# Altium integrated library TI Amplifiers and Linear Special Function Amplifier.IntLib: 708 symbols (part 32 of 47)
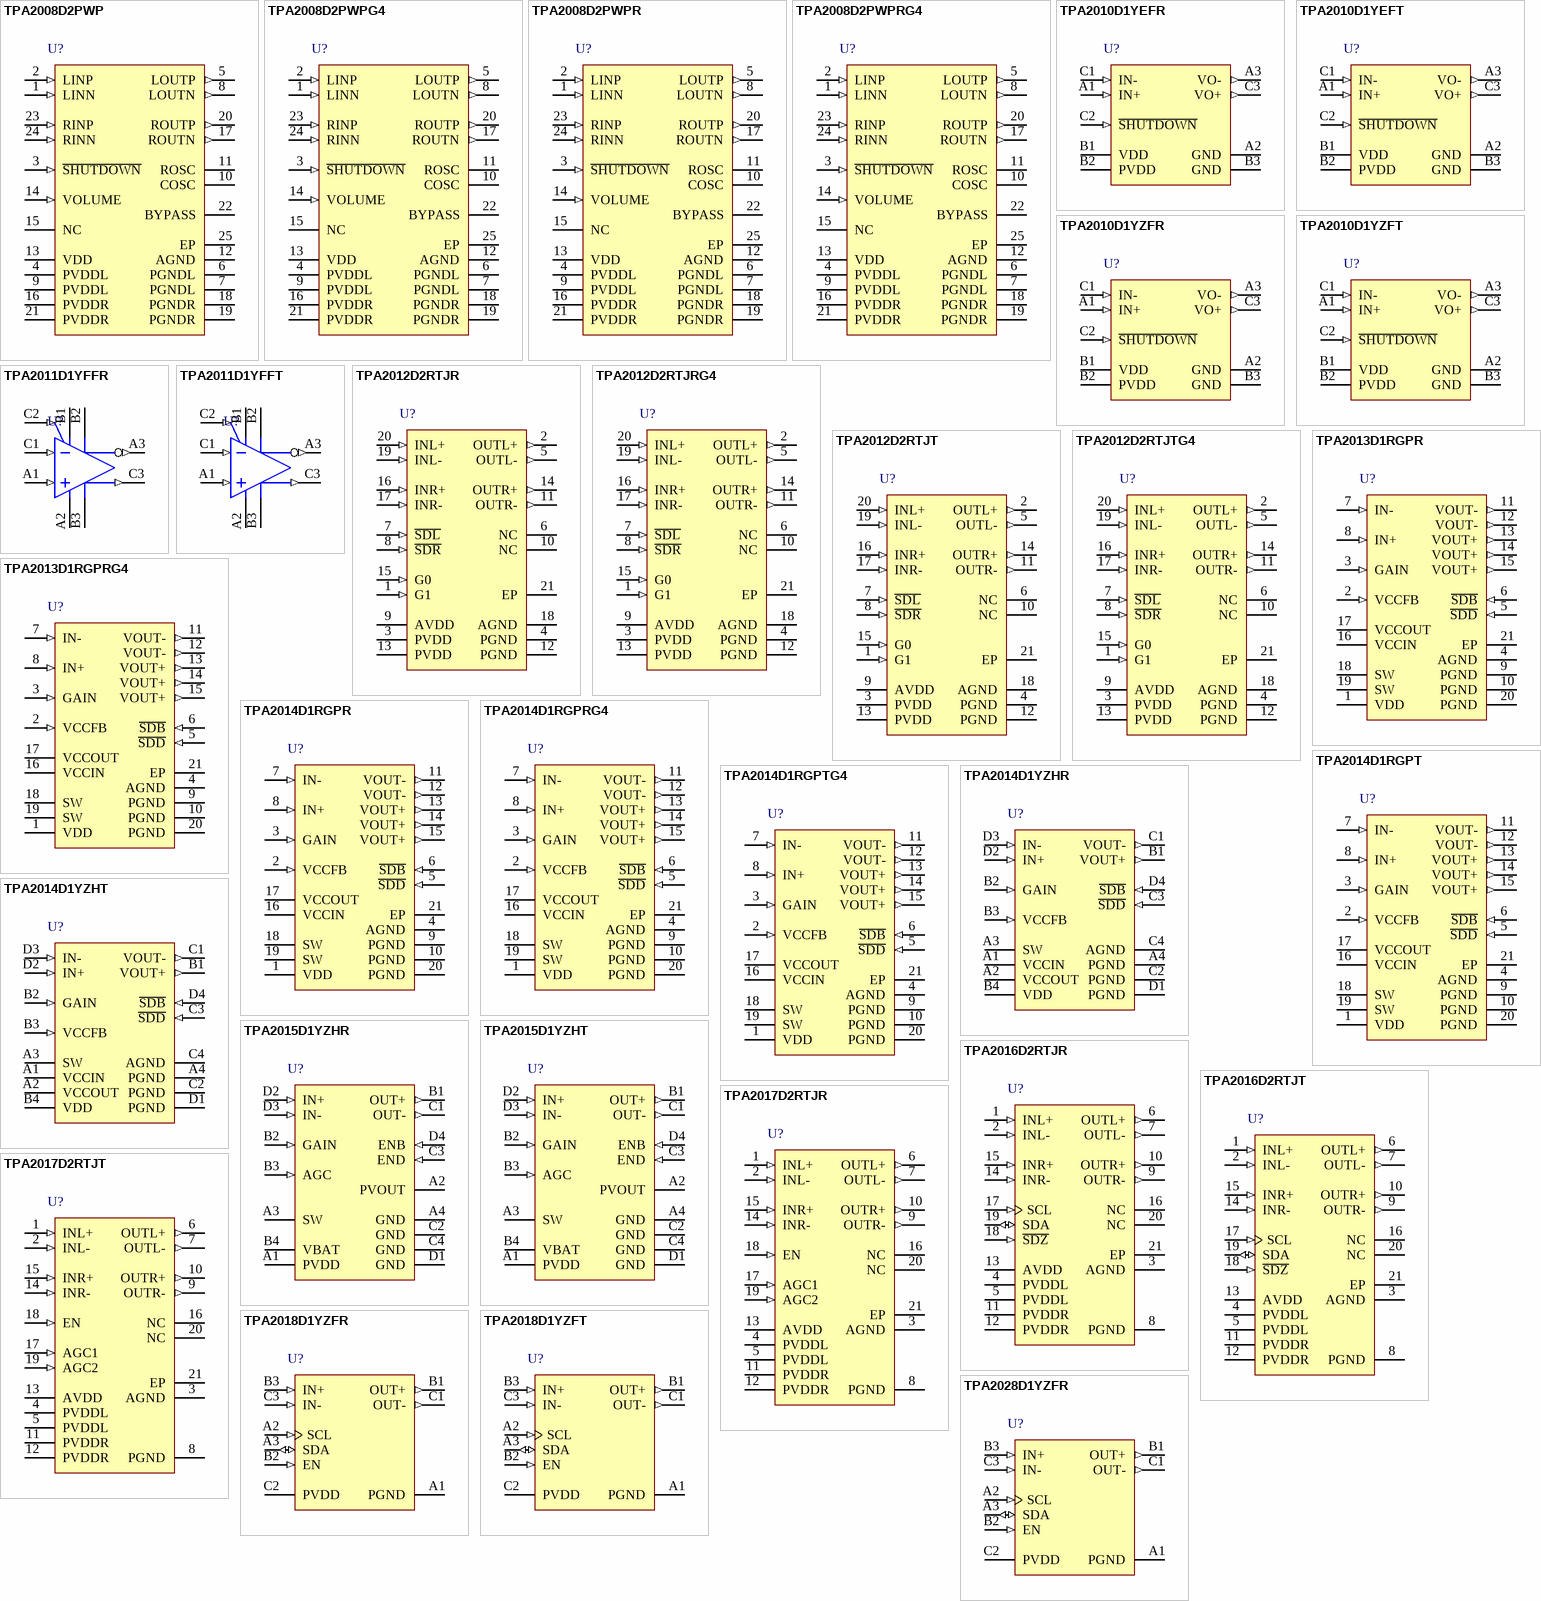
[diagram p70: symbols TPA2008D2PWP to TPA2028D1YZFR]

## TPA2008D2PWPG4
designator U?
3-W Stereo Class-D Audio Amplifier with Volume Control, -40 to 85 degC, 24-pin SOP (PWP24), Green (RoHS & no Sb/Br); Manufacturer: Texas Instruments; PartNumber: TPA2008D2PWPG4; DC Volume Control: TRUE; Output Power(W): 3; PSRR(dB): -70; Special Features: DC Volume Control; SubFamily: Dynamic Speaker; Supply Max(Max)(Volt): 5.5; Supply Min(Min)(Volt): 4.5; DatasheetVersion: SLOS413C; PackageVersion: 4073225-5/I, 05/2011; PackageReference: PWP24-4820X1950TP; PackageDescription: 24-Pin Plastic Small Outline, Body 4.4 x 7.8 mm, Pitch 0.65 mm; Supplier 1: Digi-Key; Supplier Part Number 1: TPA2008D2PWPG4-ND; Supplier 2: Mouser; Supplier Part Number 2: 595-TPA2008D2PWPG4; Eco-Plan: Green (RoHS & no Sb/Br); Speaker Amp Type: Class-D; Speaker Channels: Stereo; Mounting Technology: Surface Mount; Code_JEDEC: MO-153; ComponentLink1Description: Manufacturer URL; ComponentLink1URL: http://www.ti.com/; ComponentLink2Description: Datasheet; ComponentLink2URL: http://www.ti.com/general/docs/lit/getliterature.tsp?genericPartNumber=TPA2008D2&fileType=pdf; ComponentLink3Description: Package Specification; ComponentLink3URL: http://www.ti.com/litv/pdf/mpds372
footprint TI-PWP24-4820X1950TP_N (SOP, 24-Leads, Body 7.8x4.4mm, Pitch 0.65mm, Thermal Pad 4.87x2.4mm, IPC Medium Density)
footprint TI-PWP24-4820X1950TP_L (SOP, 24-Leads, Body 7.8x4.4mm, Pitch 0.65mm, Thermal Pad 4.87x2.4mm, IPC High Density)
footprint TI-PWP24-4820X1950TP_M (SOP, 24-Leads, Body 7.8x4.4mm, Pitch 0.65mm, Thermal Pad 4.87x2.4mm, IPC Low Density)
pins: 1 LINN (in) "Negative differential audio input for left channel", 2 LINP (in) "Positive differential audio input for left channel", 3 ~{SHUTDOWN} (in) "Places the amplifer in shutdown mode if a TTL logic low is placed on this terminal; normal operation if a TTL logic high is placed on this terminal.", 4 PVDDL (power) "Power supply for left channel H-bridge", 5 LOUTP (out) "Positive audio output for left channel", 6 PGNDL (power) "Power ground for left channel H-bridge", 7 PGNDL (power) "Power ground for left channel H-bridge", 8 LOUTN (out) "Negative audio output for left channel", 9 PVDDL (power) "Power supply for left channel H-bridge", 10 COSC "A capacitor connected to this terminal sets the oscillation frequency in conjunction with ROSC. For proper operation, connect a 220-pF capacitor from COSC to ground.", 11 ROSC "A resistor connected to the ROSC terminal sets the oscillation frequency in conjunction with COSC. For proper operation, connect a 120-kohm resistor from ROSC to ground.", 12 AGND (power) "Analog ground", 13 VDD (power) "Analog power supply", 14 VOLUME (in) "DC volume control for setting the gain on the internal amplifiers. The dc voltage range is 0 to VDD.", 15 NC "No connection", 16 PVDDR (power) "Power supply for right channel H-bridge", 17 ROUTN (out) "Negative output for right channel", 18 PGNDR (power) "Power ground for right channel H-bridge", 19 PGNDR (power) "Power ground for right channel H-bridge", 20 ROUTP (out) "Positive output for right channel", 21 PVDDR (power) "Power supply for right channel H-bridge", 22 BYPASS "Tap to voltage divider for internal mid-supply bias generator used for internal analog reference.", 23 RINP (in) "Negative differential audio input for right channel", 24 RINN (in) "Positive differential audio input for right channel", 25 EP (power) "Connect to analog ground and the power grounds must be soldered down in all applications to properly secure device on the PCB."

## TPA2008D2PWPR
designator U?
3-W Stereo Class-D Audio Amplifier with Volume Control, -40 to 85 degC, 24-pin SOP (PWP24), Green (RoHS & no Sb/Br); Manufacturer: Texas Instruments; PartNumber: TPA2008D2PWPR; DC Volume Control: TRUE; Output Power(W): 3; PSRR(dB): -70; Special Features: DC Volume Control; SubFamily: Dynamic Speaker; Supply Max(Max)(Volt): 5.5; Supply Min(Min)(Volt): 4.5; DatasheetVersion: SLOS413C; PackageVersion: 4073225-5/I, 05/2011; PackageReference: PWP24-4820X1950TP; PackageDescription: 24-Pin Plastic Small Outline, Body 4.4 x 7.8 mm, Pitch 0.65 mm; Supplier 1: Digi-Key; Supplier Part Number 1: 296-17158-2-ND; Supplier 2: Digi-Key; Supplier Part Number 2: 296-17158-1-ND; Supplier 3: Digi-Key; Supplier Part Number 3: 296-17158-6-ND; Supplier 4: Newark; Supplier Part Number 4: 82H5863; Supplier 5: Mouser; Supplier Part Number 5: 595-TPA2008D2PWPR; Eco-Plan: Green (RoHS & no Sb/Br); Speaker Amp Type: Class-D; Speaker Channels: Stereo; Mounting Technology: Surface Mount; Code_JEDEC: MO-153; ComponentLink1Description: Manufacturer URL; ComponentLink1URL: http://www.ti.com/; ComponentLink2Description: Datasheet; ComponentLink2URL: http://www.ti.com/general/docs/lit/getliterature.tsp?genericPartNumber=TPA2008D2&fileType=pdf; ComponentLink3Description: Package Specification; ComponentLink3URL: http://www.ti.com/litv/pdf/mpds372
footprint TI-PWP24-4820X1950TP_N (SOP, 24-Leads, Body 7.8x4.4mm, Pitch 0.65mm, Thermal Pad 4.87x2.4mm, IPC Medium Density)
footprint TI-PWP24-4820X1950TP_L (SOP, 24-Leads, Body 7.8x4.4mm, Pitch 0.65mm, Thermal Pad 4.87x2.4mm, IPC High Density)
footprint TI-PWP24-4820X1950TP_M (SOP, 24-Leads, Body 7.8x4.4mm, Pitch 0.65mm, Thermal Pad 4.87x2.4mm, IPC Low Density)
pins: 1 LINN (in) "Negative differential audio input for left channel", 2 LINP (in) "Positive differential audio input for left channel", 3 ~{SHUTDOWN} (in) "Places the amplifer in shutdown mode if a TTL logic low is placed on this terminal; normal operation if a TTL logic high is placed on this terminal.", 4 PVDDL (power) "Power supply for left channel H-bridge", 5 LOUTP (out) "Positive audio output for left channel", 6 PGNDL (power) "Power ground for left channel H-bridge", 7 PGNDL (power) "Power ground for left channel H-bridge", 8 LOUTN (out) "Negative audio output for left channel", 9 PVDDL (power) "Power supply for left channel H-bridge", 10 COSC "A capacitor connected to this terminal sets the oscillation frequency in conjunction with ROSC. For proper operation, connect a 220-pF capacitor from COSC to ground.", 11 ROSC "A resistor connected to the ROSC terminal sets the oscillation frequency in conjunction with COSC. For proper operation, connect a 120-kohm resistor from ROSC to ground.", 12 AGND (power) "Analog ground", 13 VDD (power) "Analog power supply", 14 VOLUME (in) "DC volume control for setting the gain on the internal amplifiers. The dc voltage range is 0 to VDD.", 15 NC "No connection", 16 PVDDR (power) "Power supply for right channel H-bridge", 17 ROUTN (out) "Negative output for right channel", 18 PGNDR (power) "Power ground for right channel H-bridge", 19 PGNDR (power) "Power ground for right channel H-bridge", 20 ROUTP (out) "Positive output for right channel", 21 PVDDR (power) "Power supply for right channel H-bridge", 22 BYPASS "Tap to voltage divider for internal mid-supply bias generator used for internal analog reference.", 23 RINP (in) "Negative differential audio input for right channel", 24 RINN (in) "Positive differential audio input for right channel", 25 EP (power) "Connect to analog ground and the power grounds must be soldered down in all applications to properly secure device on the PCB."

## TPA2008D2PWPRG4
designator U?
3-W Stereo Class-D Audio Amplifier with Volume Control, -40 to 85 degC, 24-pin SOP (PWP24), Green (RoHS & no Sb/Br); Manufacturer: Texas Instruments; PartNumber: TPA2008D2PWPRG4; DC Volume Control: TRUE; Output Power(W): 3; PSRR(dB): -70; Special Features: DC Volume Control; SubFamily: Dynamic Speaker; Supply Max(Max)(Volt): 5.5; Supply Min(Min)(Volt): 4.5; DatasheetVersion: SLOS413C; PackageVersion: 4073225-5/I, 05/2011; PackageReference: PWP24-4820X1950TP; PackageDescription: 24-Pin Plastic Small Outline, Body 4.4 x 7.8 mm, Pitch 0.65 mm; Supplier 1: Digi-Key; Supplier Part Number 1: TPA2008D2PWPRG4-ND; Supplier 2: Mouser; Supplier Part Number 2: 595-TPA2008D2PWPRG4; Eco-Plan: Green (RoHS & no Sb/Br); Speaker Amp Type: Class-D; Speaker Channels: Stereo; Mounting Technology: Surface Mount; Code_JEDEC: MO-153; ComponentLink1Description: Manufacturer URL; ComponentLink1URL: http://www.ti.com/; ComponentLink2Description: Datasheet; ComponentLink2URL: http://www.ti.com/general/docs/lit/getliterature.tsp?genericPartNumber=TPA2008D2&fileType=pdf; ComponentLink3Description: Package Specification; ComponentLink3URL: http://www.ti.com/litv/pdf/mpds372
footprint TI-PWP24-4820X1950TP_N (SOP, 24-Leads, Body 7.8x4.4mm, Pitch 0.65mm, Thermal Pad 4.87x2.4mm, IPC Medium Density)
footprint TI-PWP24-4820X1950TP_L (SOP, 24-Leads, Body 7.8x4.4mm, Pitch 0.65mm, Thermal Pad 4.87x2.4mm, IPC High Density)
footprint TI-PWP24-4820X1950TP_M (SOP, 24-Leads, Body 7.8x4.4mm, Pitch 0.65mm, Thermal Pad 4.87x2.4mm, IPC Low Density)
pins: 1 LINN (in) "Negative differential audio input for left channel", 2 LINP (in) "Positive differential audio input for left channel", 3 ~{SHUTDOWN} (in) "Places the amplifer in shutdown mode if a TTL logic low is placed on this terminal; normal operation if a TTL logic high is placed on this terminal.", 4 PVDDL (power) "Power supply for left channel H-bridge", 5 LOUTP (out) "Positive audio output for left channel", 6 PGNDL (power) "Power ground for left channel H-bridge", 7 PGNDL (power) "Power ground for left channel H-bridge", 8 LOUTN (out) "Negative audio output for left channel", 9 PVDDL (power) "Power supply for left channel H-bridge", 10 COSC "A capacitor connected to this terminal sets the oscillation frequency in conjunction with ROSC. For proper operation, connect a 220-pF capacitor from COSC to ground.", 11 ROSC "A resistor connected to the ROSC terminal sets the oscillation frequency in conjunction with COSC. For proper operation, connect a 120-kohm resistor from ROSC to ground.", 12 AGND (power) "Analog ground", 13 VDD (power) "Analog power supply", 14 VOLUME (in) "DC volume control for setting the gain on the internal amplifiers. The dc voltage range is 0 to VDD.", 15 NC "No connection", 16 PVDDR (power) "Power supply for right channel H-bridge", 17 ROUTN (out) "Negative output for right channel", 18 PGNDR (power) "Power ground for right channel H-bridge", 19 PGNDR (power) "Power ground for right channel H-bridge", 20 ROUTP (out) "Positive output for right channel", 21 PVDDR (power) "Power supply for right channel H-bridge", 22 BYPASS "Tap to voltage divider for internal mid-supply bias generator used for internal analog reference.", 23 RINP (in) "Negative differential audio input for right channel", 24 RINN (in) "Positive differential audio input for right channel", 25 EP (power) "Connect to analog ground and the power grounds must be soldered down in all applications to properly secure device on the PCB."

## TPA2010D1YEFR
designator U?
2.5-W Mono Class-D Audio Amplifier with Variable Gain, -40 to 85 degC, 9-pin BGA (YEF9); Manufacturer: Texas Instruments; PartNumber: TPA2010D1YEFR; Output Power(W): 2.5; PSRR(dB): 75; SubFamily: Dynamic Speaker; Supply Max(Max)(Volt): 5.5; DatasheetVersion: SLOS417C; PackageVersion: 4204181/F, 07/2008; PackageReference: YEF9; PackageDescription: 9-Ball Silicon Grid Array, Body 1.452 x 1.45 mm, Pitch 0.5 mm; Supplier 1: Digi-Key; Supplier Part Number 1: TPA2010D1YEFR-ND; Supplier 2: Mouser; Supplier Part Number 2: 595-TPA2010D1YEFR; Speaker Amp Type: Class-D; Speaker Channels: Mono; Supply Min(Min)(Volt): 2.5; Mounting Technology: Surface Mount; ComponentLink1Description: Manufacturer URL; ComponentLink1URL: http://www.ti.com/; ComponentLink2Description: Datasheet; ComponentLink2URL: http://www.ti.com/general/docs/lit/getliterature.tsp?genericPartNumber=TPA2010D1&fileType=pdf; ComponentLink3Description: Package Specification; ComponentLink3URL: NO URL
footprint TI-YEF9 (BGA, 9-Balls, Body 1.452x1.45mm, Pitch 0.5mm)
pins: A1 IN+ (in) "Positive differential input", A2 GND (power) "High-current ground", A3 VO- (out) "Negative BTL output", B1 VDD (power) "Power supply", B2 PVDD (power) "Power supply", B3 GND (power) "High-current ground", C1 IN- (in) "Negative differential input", C2 ~{SHUTDOWN} (in) "Shutdown terminal (active low logic)", C3 VO+ (out) "Positive BTL output"

## TPA2010D1YEFT
designator U?
2.5-W Mono Class-D Audio Amplifier with Variable Gain, -40 to 85 degC, 9-pin BGA (YEF9); Manufacturer: Texas Instruments; PartNumber: TPA2010D1YEFT; Output Power(W): 2.5; PSRR(dB): 75; SubFamily: Dynamic Speaker; Supply Max(Max)(Volt): 5.5; DatasheetVersion: SLOS417C; PackageVersion: 4204181/F, 07/2008; PackageReference: YEF9; PackageDescription: 9-Ball Silicon Grid Array, Body 1.452 x 1.45 mm, Pitch 0.5 mm; Supplier 1: Digi-Key; Supplier Part Number 1: TPA2010D1YEFT-ND; Supplier 2: Mouser; Supplier Part Number 2: 595-TPA2010D1YEFT; Speaker Amp Type: Class-D; Speaker Channels: Mono; Supply Min(Min)(Volt): 2.5; Mounting Technology: Surface Mount; ComponentLink1Description: Manufacturer URL; ComponentLink1URL: http://www.ti.com/; ComponentLink2Description: Datasheet; ComponentLink2URL: http://www.ti.com/general/docs/lit/getliterature.tsp?genericPartNumber=TPA2010D1&fileType=pdf; ComponentLink3Description: Package Specification; ComponentLink3URL: NO URL
footprint TI-YEF9 (BGA, 9-Balls, Body 1.452x1.45mm, Pitch 0.5mm)
pins: A1 IN+ (in) "Positive differential input", A2 GND (power) "High-current ground", A3 VO- (out) "Negative BTL output", B1 VDD (power) "Power supply", B2 PVDD (power) "Power supply", B3 GND (power) "High-current ground", C1 IN- (in) "Negative differential input", C2 ~{SHUTDOWN} (in) "Shutdown terminal (active low logic)", C3 VO+ (out) "Positive BTL output"

## TPA2010D1YZFR
designator U?
2.5-W Mono Class-D Audio Amplifier with Variable Gain, -40 to 85 degC, 9-pin BGA (YZF9), Green (RoHS & no Sb/Br); Manufacturer: Texas Instruments; PartNumber: TPA2010D1YZFR; Output Power(W): 2.5; PSRR(dB): 75; SubFamily: Dynamic Speaker; Supply Max(Max)(Volt): 5.5; DatasheetVersion: SLOS417C; PackageVersion: 4205058-4/P, 07/2013; PackageReference: YZF9; PackageDescription: 9-Ball Silicon Grid Array, Body 1.625 x 1.625 mm, Pitch 0.5 mm; Supplier 1: Digi-Key; Supplier Part Number 1: 296-16648-2-ND; Supplier 2: Digi-Key; Supplier Part Number 2: 296-16648-1-ND; Supplier 3: Digi-Key; Supplier Part Number 3: 296-16648-6-ND; Supplier 4: Newark; Supplier Part Number 4: 90H4704; Supplier 5: Mouser; Supplier Part Number 5: 595-TPA2010D1YZFR; Eco-Plan: Green (RoHS & no Sb/Br); Speaker Amp Type: Class-D; Speaker Channels: Mono; Supply Min(Min)(Volt): 2.5; Mounting Technology: Surface Mount; ComponentLink1Description: Manufacturer URL; ComponentLink1URL: http://www.ti.com/; ComponentLink2Description: Datasheet; ComponentLink2URL: http://www.ti.com/general/docs/lit/getliterature.tsp?genericPartNumber=TPA2010D1&fileType=pdf; ComponentLink3Description: Package Specification; ComponentLink3URL: http://www.ti.com/lit/ml/mxbg027m/mxbg027m.pdf
footprint TI-YZF9 (BGA, 9-Leads, Body 1.6245x1.6245mm, Pitch 0.5mm)
pins: A1 IN+ (in) "Positive differential input", A2 GND (power) "High-current ground", A3 VO- (out) "Negative BTL output", B1 VDD (power) "Power supply", B2 PVDD (power) "Power supply", B3 GND (power) "High-current ground", C1 IN- (in) "Negative differential input", C2 ~{SHUTDOWN} (in) "Shutdown terminal (active low logic)", C3 VO+ (out) "Positive BTL output"

## TPA2010D1YZFT
designator U?
2.5-W Mono Class-D Audio Amplifier with Variable Gain, -40 to 85 degC, 9-pin BGA (YZF9), Green (RoHS & no Sb/Br); Manufacturer: Texas Instruments; PartNumber: TPA2010D1YZFT; Output Power(W): 2.5; PSRR(dB): 75; SubFamily: Dynamic Speaker; Supply Max(Max)(Volt): 5.5; DatasheetVersion: SLOS417C; PackageVersion: 4205058-4/P, 07/2013; PackageReference: YZF9; PackageDescription: 9-Ball Silicon Grid Array, Body 1.625 x 1.625 mm, Pitch 0.5 mm; Supplier 1: Digi-Key; Supplier Part Number 1: 296-16659-2-ND; Supplier 2: Digi-Key; Supplier Part Number 2: 296-16659-1-ND; Supplier 3: Digi-Key; Supplier Part Number 3: 296-16659-6-ND; Supplier 4: Farnell; Supplier Part Number 4: 8456437RL; Supplier 5: Farnell; Supplier Part Number 5: 8456437; Supplier 6: Newark; Supplier Part Number 6: 38K8593; Supplier 7: Newark; Supplier Part Number 7: 90H4705; Supplier 8: Mouser; Supplier Part Number 8: 595-TPA2010D1YZFT; Eco-Plan: Green (RoHS & no Sb/Br); Speaker Amp Type: Class-D; Speaker Channels: Mono; Supply Min(Min)(Volt): 2.5; Mounting Technology: Surface Mount; ComponentLink1Description: Manufacturer URL; ComponentLink1URL: http://www.ti.com/; ComponentLink2Description: Datasheet; ComponentLink2URL: http://www.ti.com/general/docs/lit/getliterature.tsp?genericPartNumber=TPA2010D1&fileType=pdf; ComponentLink3Description: Package Specification; ComponentLink3URL: http://www.ti.com/lit/ml/mxbg027m/mxbg027m.pdf
footprint TI-YZF9 (BGA, 9-Leads, Body 1.6245x1.6245mm, Pitch 0.5mm)
pins: A1 IN+ (in) "Positive differential input", A2 GND (power) "High-current ground", A3 VO- (out) "Negative BTL output", B1 VDD (power) "Power supply", B2 PVDD (power) "Power supply", B3 GND (power) "High-current ground", C1 IN- (in) "Negative differential input", C2 ~{SHUTDOWN} (in) "Shutdown terminal (active low logic)", C3 VO+ (out) "Positive BTL output"

## TPA2011D1YFFR
designator U?
3.2 W Mono Class-D With Auto-Recovering Short-Circuit Protection, -40 to 85 degC, 9-pin BGA (YFF9), Green (RoHS & no Sb/Br); Manufacturer: Texas Instruments; PartNumber: TPA2011D1YFFR; Output Power(W): 3.24; PSRR(dB): 86; SubFamily: Dynamic Speaker; Supply Max(Max)(Volt): 5.5; Supply Min(Min)(Volt): 2.5; DatasheetVersion: SLOS626A; PackageVersion: 4207625-6/AL, 05/2013; PackageReference: YFF9; PackageDescription: 9-Ball Silicon Grid Array, Body 1.214 x 1.16 mm, Pitch 0.4 mm; Supplier 1: Digi-Key; Supplier Part Number 1: 296-25556-2-ND; Supplier 2: Digi-Key; Supplier Part Number 2: 296-25556-1-ND; Supplier 3: Digi-Key; Supplier Part Number 3: 296-25556-6-ND; Supplier 4: Mouser; Supplier Part Number 4: 595-TPA2011D1YFFR; Eco-Plan: Green (RoHS & no Sb/Br); Speaker Amp Type: Class-D; Speaker Channels: Mono; Mounting Technology: Surface Mount; ComponentLink1Description: Manufacturer URL; ComponentLink1URL: http://www.ti.com/; ComponentLink2Description: Datasheet; ComponentLink2URL: http://www.ti.com/general/docs/lit/getliterature.tsp?genericPartNumber=TPA2011D1&fileType=pdf; ComponentLink3Description: Package Specification; ComponentLink3URL: http://www.ti.com/litv/pdf/mxbg144
footprint TI-YFF9-1214X1160DE (BGA, 9-Balls, Body 1.214x1.16mm, Pitch 0.4mm)
pins: A1 IN+ (in) "Positive differential audio input", A2 GND (power) "Analog ground terminal. Must be connected to same potential as PGND using a direct connection to a single point ground.", A3 VO- (out) "Negative BTL audio output", B1 VDD (power) "Power supply terminal. Must be connected to same power supply as PVDD using a direct connection. Voltage must be within values listed in Recommended Operating Conditions table.", B2 PVDD (power) "High-current Power supply terminal. Must be connected to same power supply as VDD using a direct connection. Voltage must be within values listed in Recommended Operating Conditions table.", B3 PGND (power) "High-current Analog ground terminal. Must be connected to same potential as GND using a direct connection to a single point ground.", C1 IN- (in) "Negative differential audio input", C2 EN (in) "Shutdown terminal. When terminal is low the device is put into Shutdown mode.", C3 VO+ (out) "Positive BTL audio output"

## TPA2011D1YFFT
designator U?
3.2 W Mono Class-D With Auto-Recovering Short-Circuit Protection, -40 to 85 degC, 9-pin BGA (YFF9), Green (RoHS & no Sb/Br); Manufacturer: Texas Instruments; PartNumber: TPA2011D1YFFT; Output Power(W): 3.24; PSRR(dB): 86; SubFamily: Dynamic Speaker; Supply Max(Max)(Volt): 5.5; Supply Min(Min)(Volt): 2.5; DatasheetVersion: SLOS626A; PackageVersion: 4207625-6/AL, 05/2013; PackageReference: YFF9; PackageDescription: 9-Ball Silicon Grid Array, Body 1.214 x 1.16 mm, Pitch 0.4 mm; Supplier 1: Digi-Key; Supplier Part Number 1: 296-32450-2-ND; Supplier 2: Digi-Key; Supplier Part Number 2: 296-32450-1-ND; Supplier 3: Digi-Key; Supplier Part Number 3: 296-32450-6-ND; Supplier 4: Farnell; Supplier Part Number 4: 2211325; Supplier 5: Newark; Supplier Part Number 5: 64R0726; Supplier 6: Newark; Supplier Part Number 6: 44W4444; Supplier 7: Mouser; Supplier Part Number 7: 595-TPA2011D1YFFT; Eco-Plan: Green (RoHS & no Sb/Br); Speaker Amp Type: Class-D; Speaker Channels: Mono; Mounting Technology: Surface Mount; ComponentLink1Description: Manufacturer URL; ComponentLink1URL: http://www.ti.com/; ComponentLink2Description: Datasheet; ComponentLink2URL: http://www.ti.com/general/docs/lit/getliterature.tsp?genericPartNumber=TPA2011D1&fileType=pdf; ComponentLink3Description: Package Specification; ComponentLink3URL: http://www.ti.com/litv/pdf/mxbg144
footprint TI-YFF9-1214X1160DE (BGA, 9-Balls, Body 1.214x1.16mm, Pitch 0.4mm)
pins: A1 IN+ (in) "Positive differential audio input", A2 GND (power) "Analog ground terminal. Must be connected to same potential as PGND using a direct connection to a single point ground.", A3 VO- (out) "Negative BTL audio output", B1 VDD (power) "Power supply terminal. Must be connected to same power supply as PVDD using a direct connection. Voltage must be within values listed in Recommended Operating Conditions table.", B2 PVDD (power) "High-current Power supply terminal. Must be connected to same power supply as VDD using a direct connection. Voltage must be within values listed in Recommended Operating Conditions table.", B3 PGND (power) "High-current Analog ground terminal. Must be connected to same potential as GND using a direct connection to a single point ground.", C1 IN- (in) "Negative differential audio input", C2 EN (in) "Shutdown terminal. When terminal is low the device is put into Shutdown mode.", C3 VO+ (out) "Positive BTL audio output"

## TPA2012D2RTJR
designator U?
2.1-W Stereo Class-D Audio Amplifier with Gain Select, -40 to 85 degC, 20-pin QFN (RTJ20), Green (RoHS & no Sb/Br); Manufacturer: Texas Instruments; PartNumber: TPA2012D2RTJR; Output Power(W): 2.1; PSRR(dB): -75; SubFamily: Dynamic Speaker; Supply Max(Max)(Volt): 5.5; Supply Min(Min)(Volt): 2.5; DatasheetVersion: SLOS438D; PackageVersion: 4205505/F, 07/2011; PackageReference: RTJ20-2700X2700TP; PackageDescription: 20-pin Plastic Flat Pack, Body 4 x 4 mm, Pitch 0.5 mm; Supplier 1: Digi-Key; Supplier Part Number 1: 296-17692-2-ND; Supplier 2: Digi-Key; Supplier Part Number 2: 296-17692-1-ND; Supplier 3: Digi-Key; Supplier Part Number 3: 296-17692-6-ND; Supplier 4: Newark; Supplier Part Number 4: 73J8372; Supplier 5: Mouser; Supplier Part Number 5: 595-TPA2012D2RTJR; Eco-Plan: Green (RoHS & no Sb/Br); Speaker Amp Type: Class-D; Speaker Channels: Stereo; Mounting Technology: Surface Mount; ComponentLink1Description: Manufacturer URL; ComponentLink1URL: http://www.ti.com/; ComponentLink2Description: Datasheet; ComponentLink2URL: http://www.ti.com/general/docs/lit/getliterature.tsp?genericPartNumber=TPA2012D2&fileType=pdf; ComponentLink3Description: Package Specification; ComponentLink3URL: http://www.ti.com/litv/pdf/mpqf156e
footprint TI-RTJ20-2700X2700TP_V (QFN, 20-Leads, Body 4x4mm, Pitch 0.5mm, Thermal Pad 2.7x2.7mm)
pins: 1 G1 (in) "Gain select (MSB)", 2 OUTL+ (out) "Left channel positive differential output", 3 PVDD (power) "Power supply (Must be same voltage as AVDD)", 4 PGND (power) "Power ground", 5 OUTL- (out) "Left channel negative differential output", 6 NC "No internal connection", 7 ~{SDL} (in) "Left channel shutdown terminal (active low)", 8 ~{SDR} (in) "Right channel shutdown terminal (active low)", 9 AVDD (power) "Analog supply (Must be same voltage as PVDD)", 10 NC "No internal connection", 11 OUTR- (out) "Right channel negative differential output", 12 PGND (power) "Power ground", 13 PVDD (power) "Power supply (Must be same voltage as AVDD)", 14 OUTR+ (out) "Right channel positive differential output", 15 G0 (in) "Gain select (LSB)", 16 INR+ (in) "Right channel positive input", 17 INR- (in) "Right channel negative input", 18 AGND (power) "Analog ground", 19 INL- (in) "Left channel negative input", 20 INL+ (in) "Left channel positive input", 21 EP (power) "Connect the thermal pad of QFN or PWP package to PCB GND"

## TPA2012D2RTJRG4
designator U?
2.1-W Stereo Class-D Audio Amplifier with Gain Select, -40 to 85 degC, 20-pin QFN (RTJ20), Green (RoHS & no Sb/Br); Manufacturer: Texas Instruments; PartNumber: TPA2012D2RTJRG4; Output Power(W): 2.1; PSRR(dB): -75; SubFamily: Dynamic Speaker; Supply Max(Max)(Volt): 5.5; Supply Min(Min)(Volt): 2.5; DatasheetVersion: SLOS438D; PackageVersion: 4205505/F, 07/2011; PackageReference: RTJ20-2700X2700TP; PackageDescription: 20-pin Plastic Flat Pack, Body 4 x 4 mm, Pitch 0.5 mm; Supplier 1: Digi-Key; Supplier Part Number 1: TPA2012D2RTJRG4-ND; Supplier 2: Newark; Supplier Part Number 2: 24K5779; Supplier 3: Mouser; Supplier Part Number 3: 595-TPA2012D2RTJRG4; Eco-Plan: Green (RoHS & no Sb/Br); Speaker Amp Type: Class-D; Speaker Channels: Stereo; Mounting Technology: Surface Mount; ComponentLink1Description: Manufacturer URL; ComponentLink1URL: http://www.ti.com/; ComponentLink2Description: Datasheet; ComponentLink2URL: http://www.ti.com/general/docs/lit/getliterature.tsp?genericPartNumber=TPA2012D2&fileType=pdf; ComponentLink3Description: Package Specification; ComponentLink3URL: http://www.ti.com/litv/pdf/mpqf156e
footprint TI-RTJ20-2700X2700TP_V (QFN, 20-Leads, Body 4x4mm, Pitch 0.5mm, Thermal Pad 2.7x2.7mm)
pins: 1 G1 (in) "Gain select (MSB)", 2 OUTL+ (out) "Left channel positive differential output", 3 PVDD (power) "Power supply (Must be same voltage as AVDD)", 4 PGND (power) "Power ground", 5 OUTL- (out) "Left channel negative differential output", 6 NC "No internal connection", 7 ~{SDL} (in) "Left channel shutdown terminal (active low)", 8 ~{SDR} (in) "Right channel shutdown terminal (active low)", 9 AVDD (power) "Analog supply (Must be same voltage as PVDD)", 10 NC "No internal connection", 11 OUTR- (out) "Right channel negative differential output", 12 PGND (power) "Power ground", 13 PVDD (power) "Power supply (Must be same voltage as AVDD)", 14 OUTR+ (out) "Right channel positive differential output", 15 G0 (in) "Gain select (LSB)", 16 INR+ (in) "Right channel positive input", 17 INR- (in) "Right channel negative input", 18 AGND (power) "Analog ground", 19 INL- (in) "Left channel negative input", 20 INL+ (in) "Left channel positive input", 21 EP (power) "Connect the thermal pad of QFN or PWP package to PCB GND"

## TPA2012D2RTJT
designator U?
2.1-W Stereo Class-D Audio Amplifier with Gain Select, -40 to 85 degC, 20-pin QFN (RTJ20), Green (RoHS & no Sb/Br); Manufacturer: Texas Instruments; PartNumber: TPA2012D2RTJT; Output Power(W): 2.1; PSRR(dB): -75; SubFamily: Dynamic Speaker; Supply Max(Max)(Volt): 5.5; Supply Min(Min)(Volt): 2.5; DatasheetVersion: SLOS438D; PackageVersion: 4205505/F, 07/2011; PackageReference: RTJ20-2700X2700TP; PackageDescription: 20-pin Plastic Flat Pack, Body 4 x 4 mm, Pitch 0.5 mm; Supplier 1: Digi-Key; Supplier Part Number 1: 296-26878-2-ND; Supplier 2: Digi-Key; Supplier Part Number 2: 296-26878-1-ND; Supplier 3: Digi-Key; Supplier Part Number 3: 296-26878-6-ND; Supplier 4: Newark; Supplier Part Number 4: 73J8373; Supplier 5: Mouser; Supplier Part Number 5: 595-TPA2012D2RTJT; Eco-Plan: Green (RoHS & no Sb/Br); Speaker Amp Type: Class-D; Speaker Channels: Stereo; Mounting Technology: Surface Mount; ComponentLink1Description: Manufacturer URL; ComponentLink1URL: http://www.ti.com/; ComponentLink2Description: Datasheet; ComponentLink2URL: http://www.ti.com/general/docs/lit/getliterature.tsp?genericPartNumber=TPA2012D2&fileType=pdf; ComponentLink3Description: Package Specification; ComponentLink3URL: http://www.ti.com/litv/pdf/mpqf156e
footprint TI-RTJ20-2700X2700TP_V (QFN, 20-Leads, Body 4x4mm, Pitch 0.5mm, Thermal Pad 2.7x2.7mm)
pins: 1 G1 (in) "Gain select (MSB)", 2 OUTL+ (out) "Left channel positive differential output", 3 PVDD (power) "Power supply (Must be same voltage as AVDD)", 4 PGND (power) "Power ground", 5 OUTL- (out) "Left channel negative differential output", 6 NC "No internal connection", 7 ~{SDL} (in) "Left channel shutdown terminal (active low)", 8 ~{SDR} (in) "Right channel shutdown terminal (active low)", 9 AVDD (power) "Analog supply (Must be same voltage as PVDD)", 10 NC "No internal connection", 11 OUTR- (out) "Right channel negative differential output", 12 PGND (power) "Power ground", 13 PVDD (power) "Power supply (Must be same voltage as AVDD)", 14 OUTR+ (out) "Right channel positive differential output", 15 G0 (in) "Gain select (LSB)", 16 INR+ (in) "Right channel positive input", 17 INR- (in) "Right channel negative input", 18 AGND (power) "Analog ground", 19 INL- (in) "Left channel negative input", 20 INL+ (in) "Left channel positive input", 21 EP (power) "Connect the thermal pad of QFN or PWP package to PCB GND"

## TPA2012D2RTJTG4
designator U?
2.1-W Stereo Class-D Audio Amplifier with Gain Select, -40 to 85 degC, 20-pin QFN (RTJ20), Green (RoHS & no Sb/Br); Manufacturer: Texas Instruments; PartNumber: TPA2012D2RTJTG4; Output Power(W): 2.1; PSRR(dB): -75; SubFamily: Dynamic Speaker; Supply Max(Max)(Volt): 5.5; Supply Min(Min)(Volt): 2.5; DatasheetVersion: SLOS438D; PackageVersion: 4205505/F, 07/2011; PackageReference: RTJ20-2700X2700TP; PackageDescription: 20-pin Plastic Flat Pack, Body 4 x 4 mm, Pitch 0.5 mm; Supplier 1: Digi-Key; Supplier Part Number 1: TPA2012D2RTJTG4-ND; Supplier 2: Farnell; Supplier Part Number 2: 1390712; Supplier 3: Newark; Supplier Part Number 3: 62M0664; Supplier 4: Mouser; Supplier Part Number 4: 595-TPA2012D2RTJTG4; Eco-Plan: Green (RoHS & no Sb/Br); Speaker Amp Type: Class-D; Speaker Channels: Stereo; Mounting Technology: Surface Mount; ComponentLink1Description: Manufacturer URL; ComponentLink1URL: http://www.ti.com/; ComponentLink2Description: Datasheet; ComponentLink2URL: http://www.ti.com/general/docs/lit/getliterature.tsp?genericPartNumber=TPA2012D2&fileType=pdf; ComponentLink3Description: Package Specification; ComponentLink3URL: http://www.ti.com/litv/pdf/mpqf156e
footprint TI-RTJ20-2700X2700TP_V (QFN, 20-Leads, Body 4x4mm, Pitch 0.5mm, Thermal Pad 2.7x2.7mm)
pins: 1 G1 (in) "Gain select (MSB)", 2 OUTL+ (out) "Left channel positive differential output", 3 PVDD (power) "Power supply (Must be same voltage as AVDD)", 4 PGND (power) "Power ground", 5 OUTL- (out) "Left channel negative differential output", 6 NC "No internal connection", 7 ~{SDL} (in) "Left channel shutdown terminal (active low)", 8 ~{SDR} (in) "Right channel shutdown terminal (active low)", 9 AVDD (power) "Analog supply (Must be same voltage as PVDD)", 10 NC "No internal connection", 11 OUTR- (out) "Right channel negative differential output", 12 PGND (power) "Power ground", 13 PVDD (power) "Power supply (Must be same voltage as AVDD)", 14 OUTR+ (out) "Right channel positive differential output", 15 G0 (in) "Gain select (LSB)", 16 INR+ (in) "Right channel positive input", 17 INR- (in) "Right channel negative input", 18 AGND (power) "Analog ground", 19 INL- (in) "Left channel negative input", 20 INL+ (in) "Left channel positive input", 21 EP (power) "Connect the thermal pad of QFN or PWP package to PCB GND"

## TPA2013D1RGPR
designator U?
2.7-W Constant Output Power Mono Class-D Audio Amplifier with Integrated Boost Converter, -40 to 85 degC, 20-pin QFN (RGP20), Green (RoHS & no Sb/Br); Manufacturer: Texas Instruments; PartNumber: TPA2013D1RGPR; Output Power(W): 2.7; PSRR(dB): -95; Speaker Amp Type: Class-D, Class-D Boosted; SubFamily: Dynamic Speaker; Supply Max(Max)(Volt): 5.5; Supply Min(Min)(Volt): 1.8; DatasheetVersion: SLOS520; PackageVersion: 4203555/G, 07/2011; PackageReference: RGP20-2700X2700TP; PackageDescription: 20-Pin Plastic Quad Flatpack No-Pin, 4 x 4 mm Body, 0.5 mm Pitch; Supplier 1: Digi-Key; Supplier Part Number 1: 296-22849-2-ND; Supplier 2: Digi-Key; Supplier Part Number 2: 296-22849-1-ND; Supplier 3: Digi-Key; Supplier Part Number 3: 296-22849-6-ND; Supplier 4: Farnell; Supplier Part Number 4: 2323267; Supplier 5: Newark; Supplier Part Number 5: 96W3385; Supplier 6: Newark; Supplier Part Number 6: 60M1774; Supplier 7: Mouser; Supplier Part Number 7: 595-TPA2013D1RGPR; Eco-Plan: Green (RoHS & no Sb/Br); Speaker Channels: Mono; Mounting Technology: Surface Mount; Code_JEDEC: MO-220; ComponentLink1Description: Manufacturer URL; ComponentLink1URL: http://www.ti.com/; ComponentLink2Description: Datasheet; ComponentLink2URL: http://www.ti.com/general/docs/lit/getliterature.tsp?genericPartNumber=TPA2013D1&fileType=pdf; ComponentLink3Description: Package Specification; ComponentLink3URL: http://www.ti.com/litv/pdf/mpqf135c
footprint TI-RGP20-2700X2700TP_V (QFN, 20-Leads, Body 4x4mm, Pitch 0.5mm, Thermal Pad 2.7x2.7mm)
pins: 1 VDD (power) "Supply voltage", 2 VCCFB (in) "Voltage feedback", 3 GAIN (in) "Gain selection pin", 4 AGND (power) "Analog ground - connect all GND pins together", 5 ~{SDD} (in) "Shutdown terminal for the Class D Amplifier", 6 ~{SDB} (in) "Shutdown terminal for the Boost Converter", 7 IN- (in) "Negative audio input", 8 IN+ (in) "Positive audio input", 9 PGND (power) "Power ground - connect all GND pins together", 10 PGND (power) "Power ground - connect all GND pins together", 11 VOUT- (out) "Negative audio output", 12 VOUT- (out) "Negative audio output", 13 VOUT+ (out) "Positive audio output", 14 VOUT+ (out) "Positive audio output", 15 VOUT+ (out) "Positive audio output", 16 VCCIN (power) "Class-D audio power amplifier voltage supply - connect to VCCOUT", 17 VCCOUT (power) "Boost converter output - connect to VCCIN", 18 SW (power) "Boost and rectifying switch input", 19 SW (power) "Boost and rectifying switch input", 20 PGND (power) "Power ground - connect all GND pins together", 21 EP (power) "Solder the thermal pad on the bottom of the QFN package to the GND plane of the PCB. It is required for mechanical stability and will enhance thermal performance."

## TPA2013D1RGPRG4
designator U?
2.7-W Constant Output Power Mono Class-D Audio Amplifier with Integrated Boost Converter, -40 to 85 degC, 20-pin QFN (RGP20), Green (RoHS & no Sb/Br); Manufacturer: Texas Instruments; PartNumber: TPA2013D1RGPRG4; Output Power(W): 2.7; PSRR(dB): -95; Speaker Amp Type: Class-D, Class-D Boosted; SubFamily: Dynamic Speaker; Supply Max(Max)(Volt): 5.5; Supply Min(Min)(Volt): 1.8; DatasheetVersion: SLOS520; PackageVersion: 4203555/G, 07/2011; PackageReference: RGP20-2700X2700TP; PackageDescription: 20-Pin Plastic Quad Flatpack No-Pin, 4 x 4 mm Body, 0.5 mm Pitch; Supplier 1: Digi-Key; Supplier Part Number 1: TPA2013D1RGPRG4-ND; Supplier 2: Newark; Supplier Part Number 2: 65M5962; Supplier 3: Mouser; Supplier Part Number 3: 595-TPA2013D1RGPRG4; Eco-Plan: Green (RoHS & no Sb/Br); Speaker Channels: Mono; Mounting Technology: Surface Mount; Code_JEDEC: MO-220; ComponentLink1Description: Manufacturer URL; ComponentLink1URL: http://www.ti.com/; ComponentLink2Description: Datasheet; ComponentLink2URL: http://www.ti.com/general/docs/lit/getliterature.tsp?genericPartNumber=TPA2013D1&fileType=pdf; ComponentLink3Description: Package Specification; ComponentLink3URL: http://www.ti.com/litv/pdf/mpqf135c
footprint TI-RGP20-2700X2700TP_V (QFN, 20-Leads, Body 4x4mm, Pitch 0.5mm, Thermal Pad 2.7x2.7mm)
pins: 1 VDD (power) "Supply voltage", 2 VCCFB (in) "Voltage feedback", 3 GAIN (in) "Gain selection pin", 4 AGND (power) "Analog ground - connect all GND pins together", 5 ~{SDD} (in) "Shutdown terminal for the Class D Amplifier", 6 ~{SDB} (in) "Shutdown terminal for the Boost Converter", 7 IN- (in) "Negative audio input", 8 IN+ (in) "Positive audio input", 9 PGND (power) "Power ground - connect all GND pins together", 10 PGND (power) "Power ground - connect all GND pins together", 11 VOUT- (out) "Negative audio output", 12 VOUT- (out) "Negative audio output", 13 VOUT+ (out) "Positive audio output", 14 VOUT+ (out) "Positive audio output", 15 VOUT+ (out) "Positive audio output", 16 VCCIN (power) "Class-D audio power amplifier voltage supply - connect to VCCOUT", 17 VCCOUT (power) "Boost converter output - connect to VCCIN", 18 SW (power) "Boost and rectifying switch input", 19 SW (power) "Boost and rectifying switch input", 20 PGND (power) "Power ground - connect all GND pins together", 21 EP (power) "Solder the thermal pad on the bottom of the QFN package to the GND plane of the PCB. It is required for mechanical stability and will enhance thermal performance."

## TPA2014D1RGPR
designator U?
1.5-W Constant Output Power Class-D Audio Amplifier with Integrated Boost Converter, -40 to 85 degC, 20-pin QFN (RGP20), Green (RoHS & no Sb/Br); Manufacturer: Texas Instruments; PartNumber: TPA2014D1RGPR; Output Power(W): 1.5; PSRR(dB): -91; Speaker Channels: Mono; SubFamily: Dynamic Speaker; Supply Max(Max)(Volt): 5.5; Supply Min(Min)(Volt): 2.5; DatasheetVersion: SLAS559A; PackageVersion: 4203555/G, 07/2011; PackageReference: RGP20-2700X2700TP; PackageDescription: 20-Pin Plastic Quad Flatpack No-Pin, 4 x 4 mm Body, 0.5 mm Pitch; Supplier 1: Digi-Key; Supplier Part Number 1: TPA2014D1RGPR-ND; Supplier 2: Mouser; Supplier Part Number 2: 595-TPA2014D1RGPR; Eco-Plan: Green (RoHS & no Sb/Br); Speaker Amp Type: Class-D; Mounting Technology: Surface Mount; Code_JEDEC: MO-220; ComponentLink1Description: Manufacturer URL; ComponentLink1URL: http://www.ti.com/; ComponentLink2Description: Datasheet; ComponentLink2URL: http://www.ti.com/general/docs/lit/getliterature.tsp?genericPartNumber=TPA2014D1&fileType=pdf; ComponentLink3Description: Package Specification; ComponentLink3URL: http://www.ti.com/litv/pdf/mpqf135c
footprint TI-RGP20-2700X2700TP_V (QFN, 20-Leads, Body 4x4mm, Pitch 0.5mm, Thermal Pad 2.7x2.7mm)
pins: 1 VDD (power) "Supply voltage", 2 VCCFB (in) "Voltage feedback", 3 GAIN (in) "Gain selection pin", 4 AGND (power) "Analog ground - connect all GND pins together", 5 ~{SDD} (in) "Shutdown terminal for the Class D Amplifier", 6 ~{SDB} (in) "Shutdown terminal for the Boost Converter", 7 IN- (in) "Negative audio input", 8 IN+ (in) "Positive audio input", 9 PGND (power) "Power ground - connect all GND pins together", 10 PGND (power) "Power ground - connect all GND pins together", 11 VOUT- (out) "Negative audio output", 12 VOUT- (out) "Negative audio output", 13 VOUT+ (out) "Positive audio output", 14 VOUT+ (out) "Positive audio output", 15 VOUT+ (out) "Positive audio output", 16 VCCIN (power) "Class-D audio power amplifier voltage supply - connect to VCCOUT", 17 VCCOUT (power) "Boost converter output - connect to VCCIN", 18 SW (power) "Boost and rectifying switch input", 19 SW (power) "Boost and rectifying switch input", 20 PGND (power) "Power ground - connect all GND pins together", 21 EP (power) "Solder the thermal pad on the bottom of the QFN package to the GND plane of the PCB. It is required for mechanical stability and will enhance thermal performance."

## TPA2014D1RGPRG4
designator U?
1.5-W Constant Output Power Class-D Audio Amplifier with Integrated Boost Converter, -40 to 85 degC, 20-pin QFN (RGP20), Green (RoHS & no Sb/Br); Manufacturer: Texas Instruments; PartNumber: TPA2014D1RGPRG4; Output Power(W): 1.5; PSRR(dB): -91; Speaker Channels: Mono; SubFamily: Dynamic Speaker; Supply Max(Max)(Volt): 5.5; Supply Min(Min)(Volt): 2.5; DatasheetVersion: SLAS559A; PackageVersion: 4203555/G, 07/2011; PackageReference: RGP20-2700X2700TP; PackageDescription: 20-Pin Plastic Quad Flatpack No-Pin, 4 x 4 mm Body, 0.5 mm Pitch; Supplier 1: Digi-Key; Supplier Part Number 1: TPA2014D1RGPRG4-ND; Supplier 2: Mouser; Supplier Part Number 2: 595-TPA2014D1RGPRG4; Eco-Plan: Green (RoHS & no Sb/Br); Speaker Amp Type: Class-D; Mounting Technology: Surface Mount; Code_JEDEC: MO-220; ComponentLink1Description: Manufacturer URL; ComponentLink1URL: http://www.ti.com/; ComponentLink2Description: Datasheet; ComponentLink2URL: http://www.ti.com/general/docs/lit/getliterature.tsp?genericPartNumber=TPA2014D1&fileType=pdf; ComponentLink3Description: Package Specification; ComponentLink3URL: http://www.ti.com/litv/pdf/mpqf135c
footprint TI-RGP20-2700X2700TP_V (QFN, 20-Leads, Body 4x4mm, Pitch 0.5mm, Thermal Pad 2.7x2.7mm)
pins: 1 VDD (power) "Supply voltage", 2 VCCFB (in) "Voltage feedback", 3 GAIN (in) "Gain selection pin", 4 AGND (power) "Analog ground - connect all GND pins together", 5 ~{SDD} (in) "Shutdown terminal for the Class D Amplifier", 6 ~{SDB} (in) "Shutdown terminal for the Boost Converter", 7 IN- (in) "Negative audio input", 8 IN+ (in) "Positive audio input", 9 PGND (power) "Power ground - connect all GND pins together", 10 PGND (power) "Power ground - connect all GND pins together", 11 VOUT- (out) "Negative audio output", 12 VOUT- (out) "Negative audio output", 13 VOUT+ (out) "Positive audio output", 14 VOUT+ (out) "Positive audio output", 15 VOUT+ (out) "Positive audio output", 16 VCCIN (power) "Class-D audio power amplifier voltage supply - connect to VCCOUT", 17 VCCOUT (power) "Boost converter output - connect to VCCIN", 18 SW (power) "Boost and rectifying switch input", 19 SW (power) "Boost and rectifying switch input", 20 PGND (power) "Power ground - connect all GND pins together", 21 EP (power) "Solder the thermal pad on the bottom of the QFN package to the GND plane of the PCB. It is required for mechanical stability and will enhance thermal performance."

## TPA2014D1RGPT
designator U?
1.5-W Constant Output Power Class-D Audio Amplifier with Integrated Boost Converter, -40 to 85 degC, 20-pin QFN (RGP20), Green (RoHS & no Sb/Br); Manufacturer: Texas Instruments; PartNumber: TPA2014D1RGPT; Output Power(W): 1.5; PSRR(dB): -91; Speaker Channels: Mono; SubFamily: Dynamic Speaker; Supply Max(Max)(Volt): 5.5; Supply Min(Min)(Volt): 2.5; DatasheetVersion: SLAS559A; PackageVersion: 4203555/G, 07/2011; PackageReference: RGP20-2700X2700TP; PackageDescription: 20-Pin Plastic Quad Flatpack No-Pin, 4 x 4 mm Body, 0.5 mm Pitch; Supplier 1: Digi-Key; Supplier Part Number 1: 296-23476-2-ND; Supplier 2: Digi-Key; Supplier Part Number 2: 296-23476-1-ND; Supplier 3: Digi-Key; Supplier Part Number 3: 296-23476-6-ND; Supplier 4: Newark; Supplier Part Number 4: 11N7835; Supplier 5: Mouser; Supplier Part Number 5: 595-TPA2014D1RGPT; Eco-Plan: Green (RoHS & no Sb/Br); Speaker Amp Type: Class-D; Mounting Technology: Surface Mount; Code_JEDEC: MO-220; ComponentLink1Description: Manufacturer URL; ComponentLink1URL: http://www.ti.com/; ComponentLink2Description: Datasheet; ComponentLink2URL: http://www.ti.com/general/docs/lit/getliterature.tsp?genericPartNumber=TPA2014D1&fileType=pdf; ComponentLink3Description: Package Specification; ComponentLink3URL: http://www.ti.com/litv/pdf/mpqf135c
footprint TI-RGP20-2700X2700TP_V (QFN, 20-Leads, Body 4x4mm, Pitch 0.5mm, Thermal Pad 2.7x2.7mm)
pins: 1 VDD (power) "Supply voltage", 2 VCCFB (in) "Voltage feedback", 3 GAIN (in) "Gain selection pin", 4 AGND (power) "Analog ground - connect all GND pins together", 5 ~{SDD} (in) "Shutdown terminal for the Class D Amplifier", 6 ~{SDB} (in) "Shutdown terminal for the Boost Converter", 7 IN- (in) "Negative audio input", 8 IN+ (in) "Positive audio input", 9 PGND (power) "Power ground - connect all GND pins together", 10 PGND (power) "Power ground - connect all GND pins together", 11 VOUT- (out) "Negative audio output", 12 VOUT- (out) "Negative audio output", 13 VOUT+ (out) "Positive audio output", 14 VOUT+ (out) "Positive audio output", 15 VOUT+ (out) "Positive audio output", 16 VCCIN (power) "Class-D audio power amplifier voltage supply - connect to VCCOUT", 17 VCCOUT (power) "Boost converter output - connect to VCCIN", 18 SW (power) "Boost and rectifying switch input", 19 SW (power) "Boost and rectifying switch input", 20 PGND (power) "Power ground - connect all GND pins together", 21 EP (power) "Solder the thermal pad on the bottom of the QFN package to the GND plane of the PCB. It is required for mechanical stability and will enhance thermal performance."

## TPA2014D1RGPTG4
designator U?
1.5-W Constant Output Power Class-D Audio Amplifier with Integrated Boost Converter, -40 to 85 degC, 20-pin QFN (RGP20), Green (RoHS & no Sb/Br); Manufacturer: Texas Instruments; PartNumber: TPA2014D1RGPTG4; Output Power(W): 1.5; PSRR(dB): -91; Speaker Channels: Mono; SubFamily: Dynamic Speaker; Supply Max(Max)(Volt): 5.5; Supply Min(Min)(Volt): 2.5; DatasheetVersion: SLAS559A; PackageVersion: 4203555/G, 07/2011; PackageReference: RGP20-2700X2700TP; PackageDescription: 20-Pin Plastic Quad Flatpack No-Pin, 4 x 4 mm Body, 0.5 mm Pitch; Supplier 1: Digi-Key; Supplier Part Number 1: TPA2014D1RGPTG4-ND; Supplier 2: Mouser; Supplier Part Number 2: 595-TPA2014D1RGPTG4; Eco-Plan: Green (RoHS & no Sb/Br); Speaker Amp Type: Class-D; Mounting Technology: Surface Mount; Code_JEDEC: MO-220; ComponentLink1Description: Manufacturer URL; ComponentLink1URL: http://www.ti.com/; ComponentLink2Description: Datasheet; ComponentLink2URL: http://www.ti.com/general/docs/lit/getliterature.tsp?genericPartNumber=TPA2014D1&fileType=pdf; ComponentLink3Description: Package Specification; ComponentLink3URL: http://www.ti.com/litv/pdf/mpqf135c
footprint TI-RGP20-2700X2700TP_V (QFN, 20-Leads, Body 4x4mm, Pitch 0.5mm, Thermal Pad 2.7x2.7mm)
pins: 1 VDD (power) "Supply voltage", 2 VCCFB (in) "Voltage feedback", 3 GAIN (in) "Gain selection pin", 4 AGND (power) "Analog ground - connect all GND pins together", 5 ~{SDD} (in) "Shutdown terminal for the Class D Amplifier", 6 ~{SDB} (in) "Shutdown terminal for the Boost Converter", 7 IN- (in) "Negative audio input", 8 IN+ (in) "Positive audio input", 9 PGND (power) "Power ground - connect all GND pins together", 10 PGND (power) "Power ground - connect all GND pins together", 11 VOUT- (out) "Negative audio output", 12 VOUT- (out) "Negative audio output", 13 VOUT+ (out) "Positive audio output", 14 VOUT+ (out) "Positive audio output", 15 VOUT+ (out) "Positive audio output", 16 VCCIN (power) "Class-D audio power amplifier voltage supply - connect to VCCOUT", 17 VCCOUT (power) "Boost converter output - connect to VCCIN", 18 SW (power) "Boost and rectifying switch input", 19 SW (power) "Boost and rectifying switch input", 20 PGND (power) "Power ground - connect all GND pins together", 21 EP (power) "Solder the thermal pad on the bottom of the QFN package to the GND plane of the PCB. It is required for mechanical stability and will enhance thermal performance."

## TPA2014D1YZHR
designator U?
1.5-W Constant Output Power Class-D Audio Amplifier with Integrated Boost Converter, -40 to 85 degC, 16-pin BGA (YZH16), Green (RoHS & no Sb/Br); Manufacturer: Texas Instruments; PartNumber: TPA2014D1YZHR; Output Power(W): 1.5; PSRR(dB): -91; Speaker Channels: Mono; SubFamily: Dynamic Speaker; Supply Max(Max)(Volt): 5.5; Supply Min(Min)(Volt): 2.5; DatasheetVersion: SLAS559A; PackageVersion: 4205060/F, 05/2013; PackageReference: YZH16-2280X2280DE; PackageDescription: 16-Ball Silicon Grid Array, Body 2.28 x 2.28 mm, Pitch 0.5 mm; Supplier 1: Digi-Key; Supplier Part Number 1: 296-23568-2-ND; Supplier 2: Digi-Key; Supplier Part Number 2: 296-23568-1-ND; Supplier 3: Digi-Key; Supplier Part Number 3: 296-23568-6-ND; Supplier 4: Mouser; Supplier Part Number 4: 595-TPA2014D1YZHR; Eco-Plan: Green (RoHS & no Sb/Br); Speaker Amp Type: Class-D; Mounting Technology: Surface Mount; ComponentLink1Description: Manufacturer URL; ComponentLink1URL: http://www.ti.com/; ComponentLink2Description: Datasheet; ComponentLink2URL: http://www.ti.com/general/docs/lit/getliterature.tsp?genericPartNumber=TPA2014D1&fileType=pdf; ComponentLink3Description: Package Specification; ComponentLink3URL: http://www.ti.com/lit/ds/symlink/tpa2014d1.pdf
footprint TI-YZH16-2280X2280DE (BGA, 16-Balls, Body 2.28x2.28mm, Pitch 0.5mm)
pins: A1 VCCIN (power) "Class-D audio power amplifier voltage supply - connect to VCCOUT", A2 VCCOUT (power) "Boost converter output - connect to VCCIN", A3 SW (power) "Boost and rectifying switch input", A4 PGND (power) "Power ground - connect all GND pins together", B1 VOUT+ (out) "Positive audio output", B2 GAIN (in) "Gain selection pin", B3 VCCFB (in) "Voltage feedback", B4 VDD (power) "Supply voltage", C1 VOUT- (out) "Negative audio output", C2 PGND (power) "Power ground - connect all GND pins together", C3 ~{SDD} (in) "Shutdown terminal for the Class D Amplifier", C4 AGND (power) "Analog ground - connect all GND pins together", D1 PGND (power) "Power ground - connect all GND pins together", D2 IN+ (in) "Positive audio input", D3 IN- (in) "Negative audio input", D4 ~{SDB} (in) "Shutdown terminal for the Boost Converter"